# EAGLE library part 66100811622 (library power_distribution)
Male Vertical Shrouded Header
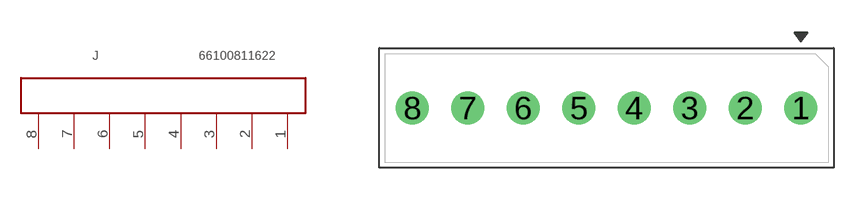
[diagram p5: symbol with the pads of 66100811622; footprint 66100811622]

Designator prefix J

## 66100811622 (MF: Würth Elektronik; MPN: 66100811622)  [66100811622]
1  1  pas
2  2  pas
3  3  pas
4  4  pas
5  5  pas
6  6  pas
7  7  pas
8  8  pas

## Footprint 66100811622 (pad centres in mm)
drill 1: 1 8.89,0; 2 6.35,0; 3 3.81,0; 4 1.27,0; 5 -1.27,0; 6 -3.81,0; 7 -6.35,0; 8 -8.89,0